# Altium schematic symbol library WS-ROSV.SchLib: 24 symbols
Pins are listed as number, name and electrical type; pins without a type are passive.

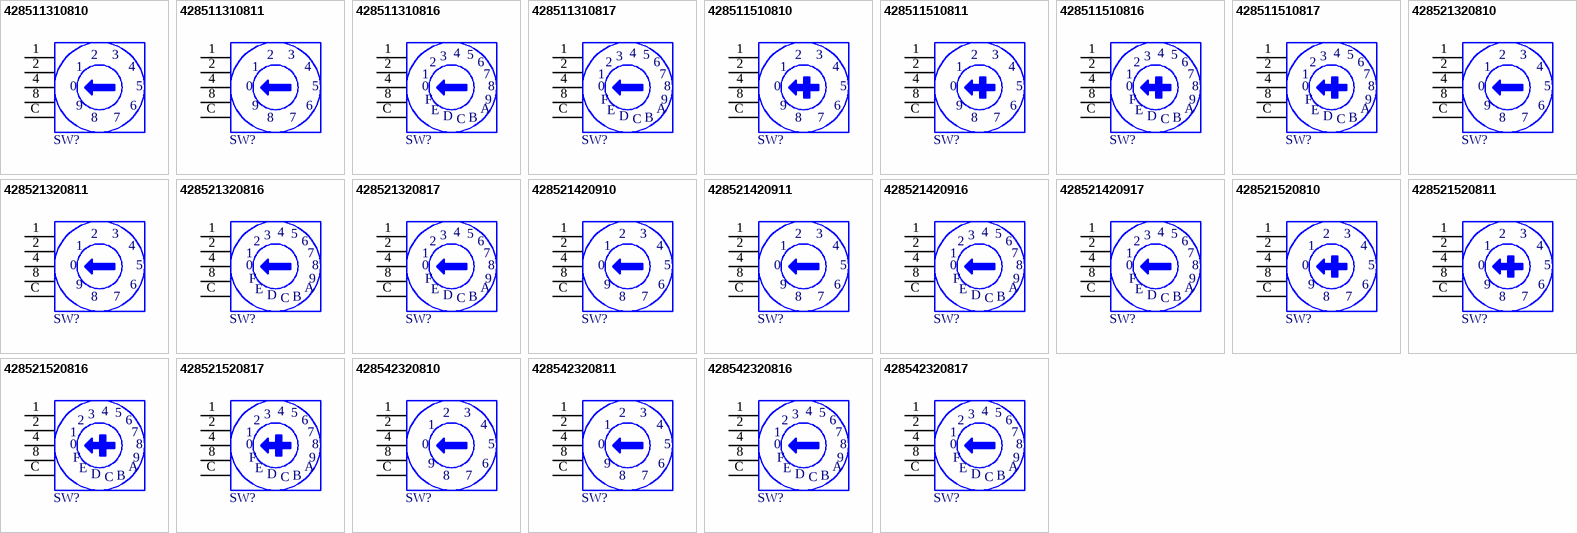
[diagram p0: symbols 428511310810 to 428542320817]

## 428511310810
designator SW?  (value not drawn)
WS-ROSV SMT IP67 Rotary Switch 4x1 Terminal with Arrow Type Actuator, 10 x 10mm, Arrow Type, 10p; Manufacturer: Wurth Elektronik; Actuator Color: Light Grey; Code: Real Code; Cover Material: LCP; Number of Positions: 10; Rated Current: 200mA; Rated Voltage: 42VDC; Washable: Yes; Manufacturer Part Number: 428511310810; Category: Rotary Switches; Match Code: WS-ROSV; ComponentLink1Description: Website Link; ComponentLink1URL: https://www.we-online.com/redexpert/article/428511310810?ad; ComponentLink2Description: Datasheet Link; ComponentLink2URL: https://www.we-online.com/redexpert/spec/428511310810?ad; Mount: Surface Mount; Operating Temperature Max: 85°C; Operating Temperature Min: -40°C; Packaging: Tape and Reel; Length: 10mm; Width: 10mm; Height: 6.8mm; Actuator Type: Arrow Type; Ingress Protection Code: IP67; Terminal Plating: Gold
footprint 42851131081x_10p
pins: 1, 2, 4, 8, C
text: 3; 0; 5; 9; 6; 7

## 428511310811
designator SW?  (value not drawn)
WS-ROSV SMT IP67 Rotary Switch 4x1 Terminal with Arrow Type Actuator, 10 x 10mm, Arrow Type, 10p; Manufacturer: Wurth Elektronik; Actuator Color: Blue; Code: Complement Code; Cover Material: LCP; Number of Positions: 10; Rated Current: 200mA; Rated Voltage: 42VDC; Washable: Yes; Manufacturer Part Number: 428511310811; Category: Rotary Switches; Match Code: WS-ROSV; ComponentLink1Description: Website Link; ComponentLink1URL: https://www.we-online.com/redexpert/article/428511310811?ad; ComponentLink2Description: Datasheet Link; ComponentLink2URL: https://www.we-online.com/redexpert/spec/428511310811?ad; Mount: Surface Mount; Operating Temperature Max: 85°C; Operating Temperature Min: -40°C; Packaging: Tape and Reel; Length: 10mm; Width: 10mm; Height: 6.8mm; Actuator Type: Arrow Type; Ingress Protection Code: IP67; Terminal Plating: Gold
footprint 42851131081x_10p
pins: 1, 2, 4, 8, C
text: 3; 0; 5; 9; 6; 7

## 428511310816
designator SW?  (value not drawn)
WS-ROSV SMT IP67 Rotary Switch 4x1 Terminal with Arrow Type Actuator, 10 x 10mm, Arrow Type, 16p; Manufacturer: Wurth Elektronik; Actuator Color: Light Grey; Code: Real Code; Cover Material: LCP; Number of Positions: 16; Rated Current: 200mA; Rated Voltage: 42VDC; Washable: Yes; Manufacturer Part Number: 428511310816; Category: Rotary Switches; Match Code: WS-ROSV; ComponentLink1Description: Website Link; ComponentLink1URL: https://www.we-online.com/redexpert/article/428511310816?ad; ComponentLink2Description: Datasheet Link; ComponentLink2URL: https://www.we-online.com/redexpert/spec/428511310816?ad; Mount: Surface Mount; Operating Temperature Max: 85°C; Operating Temperature Min: -40°C; Packaging: Tape and Reel; Length: 10mm; Width: 10mm; Height: 6.8mm; Actuator Type: Arrow Type; Ingress Protection Code: IP67; Terminal Plating: Gold
footprint 42851131081x_16p
pins: 1, 2, 4, 8, C
text: 3; 5; 6; 7; 0; F; 9; E; A; D; B

## 428511310817
designator SW?  (value not drawn)
WS-ROSV SMT IP67 Rotary Switch 4x1 Terminal with Arrow Type Actuator, 10 x 10mm, Arrow Type, 16p; Manufacturer: Wurth Elektronik; Actuator Color: Blue; Code: Complement Code; Cover Material: LCP; Number of Positions: 16; Rated Current: 200mA; Rated Voltage: 42VDC; Washable: Yes; Manufacturer Part Number: 428511310817; Category: Rotary Switches; Match Code: WS-ROSV; ComponentLink1Description: Website Link; ComponentLink1URL: https://www.we-online.com/redexpert/article/428511310817?ad; ComponentLink2Description: Datasheet Link; ComponentLink2URL: https://www.we-online.com/redexpert/spec/428511310817?ad; Mount: Surface Mount; Operating Temperature Max: 85°C; Operating Temperature Min: -40°C; Packaging: Tape and Reel; Length: 10mm; Width: 10mm; Height: 6.8mm; Actuator Type: Arrow Type; Ingress Protection Code: IP67; Terminal Plating: Gold
footprint 42851131081x_16p
pins: 1, 2, 4, 8, C
text: 3; 5; 6; 7; 0; F; 9; E; A; D; B

## 428511510810
designator SW?  (value not drawn)
WS-ROSV SMT IP67 Rotary Switch 4x1 Terminal with Cross Type Actuator, 10 x 10mm, Cross Type, 10p; Manufacturer: Wurth Elektronik; Actuator Color: Light Grey; Code: Real Code; Cover Material: LCP; Number of Positions: 10; Rated Current: 200mA; Rated Voltage: 42VDC; Washable: Yes; Manufacturer Part Number: 428511510810; Category: Rotary Switches; Match Code: WS-ROSV; ComponentLink1Description: Website Link; ComponentLink1URL: https://www.we-online.com/redexpert/article/428511510810?ad; ComponentLink2Description: Datasheet Link; ComponentLink2URL: https://www.we-online.com/redexpert/spec/428511510810?ad; Mount: Surface Mount; Operating Temperature Max: 85°C; Operating Temperature Min: -40°C; Packaging: Tape and Reel; Length: 10mm; Width: 10mm; Height: 6.8mm; Actuator Type: Cross Type; Ingress Protection Code: IP67; Terminal Plating: Gold
footprint 42851151081x_10p
pins: 1, 2, 4, 8, C
text: 3; 0; 5; 9; 6; 7

## 428511510811
designator SW?  (value not drawn)
WS-ROSV SMT IP67 Rotary Switch 4x1 Terminal with Cross Type Actuator, 10 x 10mm, Cross Type, 10p; Manufacturer: Wurth Elektronik; Actuator Color: Blue; Code: Complement Code; Cover Material: LCP; Number of Positions: 10; Rated Current: 200mA; Rated Voltage: 42VDC; Washable: Yes; Manufacturer Part Number: 428511510811; Category: Rotary Switches; Match Code: WS-ROSV; ComponentLink1Description: Website Link; ComponentLink1URL: https://www.we-online.com/redexpert/article/428511510811?ad; ComponentLink2Description: Datasheet Link; ComponentLink2URL: https://www.we-online.com/redexpert/spec/428511510811?ad; Mount: Surface Mount; Operating Temperature Max: 85°C; Operating Temperature Min: -40°C; Packaging: Tape and Reel; Length: 10mm; Width: 10mm; Height: 6.8mm; Actuator Type: Cross Type; Ingress Protection Code: IP67; Terminal Plating: Gold
footprint 42851151081x_10p
pins: 1, 2, 4, 8, C
text: 3; 0; 5; 9; 6; 7

## 428511510816
designator SW?  (value not drawn)
WS-ROSV SMT IP67 Rotary Switch 4x1 Terminal with Cross Type Actuator, 10 x 10mm, Cross Type, 16p; Manufacturer: Wurth Elektronik; Actuator Color: Light Grey; Code: Real Code; Cover Material: LCP; Number of Positions: 16; Rated Current: 200mA; Rated Voltage: 42VDC; Washable: Yes; Manufacturer Part Number: 428511510816; Category: Rotary Switches; Match Code: WS-ROSV; ComponentLink1Description: Website Link; ComponentLink1URL: https://www.we-online.com/redexpert/article/428511510816?ad; ComponentLink2Description: Datasheet Link; ComponentLink2URL: https://www.we-online.com/redexpert/spec/428511510816?ad; Mount: Surface Mount; Operating Temperature Max: 85°C; Operating Temperature Min: -40°C; Packaging: Tape and Reel; Length: 10mm; Width: 10mm; Height: 6.8mm; Actuator Type: Cross Type; Ingress Protection Code: IP67; Terminal Plating: Gold
footprint 42851151081x_16p
pins: 1, 2, 4, 8, C
text: 3; 5; 6; 7; 0; F; 9; E; A; D; B

## 428511510817
designator SW?  (value not drawn)
WS-ROSV SMT IP67 Rotary Switch 4x1 Terminal with Cross Type Actuator, 10 x 10mm, Cross Type, 16p; Manufacturer: Wurth Elektronik; Actuator Color: Blue; Code: Complement Code; Cover Material: LCP; Number of Positions: 16; Rated Current: 200mA; Rated Voltage: 42VDC; Washable: Yes; Manufacturer Part Number: 428511510817; Category: Rotary Switches; Match Code: WS-ROSV; ComponentLink1Description: Website Link; ComponentLink1URL: https://www.we-online.com/redexpert/article/428511510817?ad; ComponentLink2Description: Datasheet Link; ComponentLink2URL: https://www.we-online.com/redexpert/spec/428511510817?ad; Mount: Surface Mount; Operating Temperature Max: 85°C; Operating Temperature Min: -40°C; Packaging: Tape and Reel; Length: 10mm; Width: 10mm; Height: 6.8mm; Actuator Type: Cross Type; Ingress Protection Code: IP67; Terminal Plating: Gold
footprint 42851151081x_16p
pins: 1, 2, 4, 8, C
text: 3; 5; 6; 7; 0; F; 9; E; A; D; B

## 428521320810
designator SW?  (value not drawn)
WS-ROSV SMT Rotary Switch with Arrow Type Actuator, 10 x 10mm, Arrow Type, 10p; Manufacturer: Wurth Elektronik; Cover Material: LCP; Number of Positions: 10; Rated Current: 150mA; Rated Voltage: 24VDC; Washable: Yes; ComponentLink1Description: Website Link; ComponentLink1URL: https://www.we-online.com/redexpert/article/428521320810?ad; ComponentLink2Description: Datasheet Link; ComponentLink2URL: https://www.we-online.com/redexpert/spec/428521320810?ad; Manufacturer Part Number: 428521320810; Category: Rotary Switches; Match Code: WS-ROSV; Mount: Surface Mount; Operating Temperature Max: 85°C; Operating Temperature Min: -40°C; Packaging: Tape and Reel; Length: 10mm; Width: 10mm; Height: 6.8mm; Actuator Type: Arrow Type; Terminal Plating: Gold
footprint 42852132081x_10p
pins: 1, 2, 4, 8, C
text: 3; 0; 5; 9; 6; 7

## 428521320811
designator SW?  (value not drawn)
WS-ROSV SMT Rotary Switch with Arrow Type Actuator, 10 x 10mm, Arrow Type, 10p; Manufacturer: Wurth Elektronik; Cover Material: LCP; Number of Positions: 10; Rated Current: 150mA; Rated Voltage: 24VDC; Washable: Yes; ComponentLink1Description: Website Link; ComponentLink1URL: https://www.we-online.com/redexpert/article/428521320811?ad; ComponentLink2Description: Datasheet Link; ComponentLink2URL: https://www.we-online.com/redexpert/spec/428521320811?ad; Manufacturer Part Number: 428521320811; Category: Rotary Switches; Match Code: WS-ROSV; Mount: Surface Mount; Operating Temperature Max: 85°C; Operating Temperature Min: -40°C; Packaging: Tape and Reel; Length: 10mm; Width: 10mm; Height: 6.8mm; Actuator Type: Arrow Type; Terminal Plating: Gold
footprint 42852132081x_10p
pins: 1, 2, 4, 8, C
text: 3; 0; 5; 9; 6; 7

## 428521320816
designator SW?  (value not drawn)
WS-ROSV SMT Rotary Switch with Arrow Type Actuator, 10 x 10mm, Arrow Type, 16p; Manufacturer: Wurth Elektronik; Cover Material: LCP; Number of Positions: 16; Rated Current: 150mA; Rated Voltage: 24VDC; Washable: Yes; ComponentLink1Description: Website Link; ComponentLink1URL: https://www.we-online.com/redexpert/article/428521320816?ad; ComponentLink2Description: Datasheet Link; ComponentLink2URL: https://www.we-online.com/redexpert/spec/428521320816?ad; Manufacturer Part Number: 428521320816; Category: Rotary Switches; Match Code: WS-ROSV; Mount: Surface Mount; Operating Temperature Max: 85°C; Operating Temperature Min: -40°C; Packaging: Tape and Reel; Length: 10mm; Width: 10mm; Height: 6.8mm; Actuator Type: Arrow Type; Terminal Plating: Gold
footprint 42852132081x_16p
pins: 1, 2, 4, 8, C
text: 3; 5; 6; 7; 0; F; 9; E; A; D; B

## 428521320817
designator SW?  (value not drawn)
WS-ROSV SMT Rotary Switch with Arrow Type Actuator, 10 x 10mm, Arrow Type, 16p; Manufacturer: Wurth Elektronik; Cover Material: LCP; Number of Positions: 16; Rated Current: 150mA; Rated Voltage: 24VDC; Washable: Yes; ComponentLink1Description: Website Link; ComponentLink1URL: https://www.we-online.com/redexpert/article/428521320817?ad; ComponentLink2Description: Datasheet Link; ComponentLink2URL: https://www.we-online.com/redexpert/spec/428521320817?ad; Manufacturer Part Number: 428521320817; Category: Rotary Switches; Match Code: WS-ROSV; Mount: Surface Mount; Operating Temperature Max: 85°C; Operating Temperature Min: -40°C; Packaging: Tape and Reel; Length: 10mm; Width: 10mm; Height: 6.8mm; Actuator Type: Arrow Type; Terminal Plating: Gold
footprint 42852132081x_16p
pins: 1, 2, 4, 8, C
text: 3; 5; 6; 7; 0; F; 9; E; A; D; B

## 428521420910
designator SW?  (value not drawn)
WS-ROSV SMT Rotary Switch with Shaft Type Actuator, 10 x 10mm, Shaft Type, 10p; Manufacturer: Wurth Elektronik; Cover Material: LCP; Number of Positions: 10; Rated Current: 150mA; Rated Voltage: 24VDC; Washable: Yes; ComponentLink1Description: Website Link; ComponentLink1URL: https://www.we-online.com/redexpert/article/428521420910?ad; ComponentLink2Description: Datasheet Link; ComponentLink2URL: https://www.we-online.com/redexpert/spec/428521420910?ad; Manufacturer Part Number: 428521420910; Category: Rotary Switches; Match Code: WS-ROSV; Mount: Surface Mount; Operating Temperature Max: 85°C; Operating Temperature Min: -40°C; Packaging: Tube; Length: 10mm; Width: 10mm; Height: 14.1mm; Actuator Type: Shaft Type; Terminal Plating: Gold
footprint 42852142091x_10p
pins: 1, 2, 4, 8, C
text: 3; 0; 5; 9; 6; 7

## 428521420911
designator SW?  (value not drawn)
WS-ROSV SMT Rotary Switch with Shaft Type Actuator, 10 x 10mm, Shaft Type, 10p; Manufacturer: Wurth Elektronik; Cover Material: LCP; Number of Positions: 10; Rated Current: 150mA; Rated Voltage: 24VDC; Washable: Yes; ComponentLink1Description: Website Link; ComponentLink1URL: https://www.we-online.com/redexpert/article/428521420911?ad; ComponentLink2Description: Datasheet Link; ComponentLink2URL: https://www.we-online.com/redexpert/spec/428521420911?ad; Manufacturer Part Number: 428521420911; Category: Rotary Switches; Match Code: WS-ROSV; Mount: Surface Mount; Operating Temperature Max: 85°C; Operating Temperature Min: -40°C; Packaging: Tube; Length: 10mm; Width: 10mm; Height: 14.1mm; Actuator Type: Shaft Type; Terminal Plating: Gold
footprint 42852142091x_10p
pins: 1, 2, 4, 8, C
text: 3; 0; 5; 9; 6; 7

## 428521420916
designator SW?  (value not drawn)
WS-ROSV SMT Rotary Switch with Shaft Type Actuator, 10 x 10mm, Shaft Type, 16p; Manufacturer: Wurth Elektronik; Cover Material: LCP; Number of Positions: 16; Rated Current: 150mA; Rated Voltage: 24VDC; Washable: Yes; ComponentLink1Description: Website Link; ComponentLink1URL: https://www.we-online.com/redexpert/article/428521420916?ad; ComponentLink2Description: Datasheet Link; ComponentLink2URL: https://www.we-online.com/redexpert/spec/428521420916?ad; Manufacturer Part Number: 428521420916; Category: Rotary Switches; Match Code: WS-ROSV; Mount: Surface Mount; Operating Temperature Max: 85°C; Operating Temperature Min: -40°C; Packaging: Tube; Length: 10mm; Width: 10mm; Height: 14.1mm; Actuator Type: Shaft Type; Terminal Plating: Gold
footprint 42852142091x_16p
pins: 1, 2, 4, 8, C
text: 3; 5; 6; 7; 0; F; 9; E; A; D; B

## 428521420917
designator SW?  (value not drawn)
WS-ROSV SMT Rotary Switch with Shaft Type Actuator, 10 x 10mm, Shaft Type, 16p; Manufacturer: Wurth Elektronik; Cover Material: LCP; Number of Positions: 16; Rated Current: 150mA; Rated Voltage: 24VDC; Washable: Yes; ComponentLink1Description: Website Link; ComponentLink1URL: https://www.we-online.com/redexpert/article/428521420917?ad; ComponentLink2Description: Datasheet Link; ComponentLink2URL: https://www.we-online.com/redexpert/spec/428521420917?ad; Manufacturer Part Number: 428521420917; Category: Rotary Switches; Match Code: WS-ROSV; Mount: Surface Mount; Operating Temperature Max: 85°C; Operating Temperature Min: -40°C; Packaging: Tube; Length: 10mm; Width: 10mm; Height: 14.1mm; Actuator Type: Shaft Type; Terminal Plating: Gold
footprint 42852142091x_16p
pins: 1, 2, 4, 8, C
text: 3; 5; 6; 7; 0; F; 9; E; A; D; B

## 428521520810
designator SW?  (value not drawn)
WS-ROSV SMT Rotary Switch with Cross Type Actuator, 10 x 10mm, Cross Type, 10p; Manufacturer: Wurth Elektronik; Cover Material: LCP; Number of Positions: 10; Rated Current: 150mA; Rated Voltage: 24VDC; Washable: Yes; ComponentLink1Description: Website Link; ComponentLink1URL: https://www.we-online.com/redexpert/article/428521520810?ad; ComponentLink2Description: Datasheet Link; ComponentLink2URL: https://www.we-online.com/redexpert/spec/428521520810?ad; Manufacturer Part Number: 428521520810; Category: Rotary Switches; Match Code: WS-ROSV; Mount: Surface Mount; Operating Temperature Max: 85°C; Operating Temperature Min: -40°C; Packaging: Tape and Reel; Length: 10mm; Width: 10mm; Height: 6.8mm; Actuator Type: Cross Type; Terminal Plating: Gold
footprint 42852152081x_10p
pins: 1, 2, 4, 8, C
text: 3; 0; 5; 9; 6; 7

## 428521520811
designator SW?  (value not drawn)
WS-ROSV SMT Rotary Switch with Cross Type Actuator, 10 x 10mm, Cross Type, 10p; Manufacturer: Wurth Elektronik; Cover Material: LCP; Number of Positions: 10; Rated Current: 150mA; Rated Voltage: 24VDC; Washable: Yes; ComponentLink1Description: Website Link; ComponentLink1URL: https://www.we-online.com/redexpert/article/428521520811?ad; ComponentLink2Description: Datasheet Link; ComponentLink2URL: https://www.we-online.com/redexpert/spec/428521520811?ad; Manufacturer Part Number: 428521520811; Category: Rotary Switches; Match Code: WS-ROSV; Mount: Surface Mount; Operating Temperature Max: 85°C; Operating Temperature Min: -40°C; Packaging: Tape and Reel; Length: 10mm; Width: 10mm; Height: 6.8mm; Actuator Type: Cross Type; Terminal Plating: Gold
footprint 42852152081x_10p
pins: 1, 2, 4, 8, C
text: 3; 0; 5; 9; 6; 7

## 428521520816
designator SW?  (value not drawn)
WS-ROSV SMT Rotary Switch with Cross Type Actuator, 10 x 10mm, Cross Type, 16p; Manufacturer: Wurth Elektronik; Cover Material: LCP; Number of Positions: 16; Rated Current: 150mA; Rated Voltage: 24VDC; Washable: Yes; ComponentLink1Description: Website Link; ComponentLink1URL: https://www.we-online.com/redexpert/article/428521520816?ad; ComponentLink2Description: Datasheet Link; ComponentLink2URL: https://www.we-online.com/redexpert/spec/428521520816?ad; Manufacturer Part Number: 428521520816; Category: Rotary Switches; Match Code: WS-ROSV; Mount: Surface Mount; Operating Temperature Max: 85°C; Operating Temperature Min: -40°C; Packaging: Tape and Reel; Length: 10mm; Width: 10mm; Height: 6.8mm; Actuator Type: Cross Type; Terminal Plating: Gold
footprint 42852152081x_16p
pins: 1, 2, 4, 8, C
text: 3; 5; 6; 7; 0; F; 9; E; A; D; B

## 428521520817
designator SW?  (value not drawn)
WS-ROSV SMT Rotary Switch with Cross Type Actuator, 10 x 10mm, Cross Type, 16p; Manufacturer: Wurth Elektronik; Cover Material: LCP; Number of Positions: 16; Rated Current: 150mA; Rated Voltage: 24VDC; Washable: Yes; ComponentLink1Description: Website Link; ComponentLink1URL: https://www.we-online.com/redexpert/article/428521520817?ad; ComponentLink2Description: Datasheet Link; ComponentLink2URL: https://www.we-online.com/redexpert/spec/428521520817?ad; Manufacturer Part Number: 428521520817; Category: Rotary Switches; Match Code: WS-ROSV; Mount: Surface Mount; Operating Temperature Max: 85°C; Operating Temperature Min: -40°C; Packaging: Tape and Reel; Length: 10mm; Width: 10mm; Height: 6.8mm; Actuator Type: Cross Type; Terminal Plating: Gold
footprint 42852152081x_16p
pins: 1, 2, 4, 8, C
text: 3; 5; 6; 7; 0; F; 9; E; A; D; B

## 428542320810
designator SW?  (value not drawn)
WS-ROSV SMT Rotary Switch with Arrow Type Actuator, 7 x 7mm, Arrow Type, 10p; Manufacturer: Wurth Elektronik; Cover Material: Stainless Steel; Number of Positions: 10; Rated Current: 100mA; Rated Voltage: 42VDC; Washable: Yes; ComponentLink1Description: Website Link; ComponentLink1URL: https://www.we-online.com/redexpert/article/428542320810?ad; ComponentLink2Description: Datasheet Link; ComponentLink2URL: https://www.we-online.com/redexpert/spec/428542320810?ad; Manufacturer Part Number: 428542320810; Category: Rotary Switches; Match Code: WS-ROSV; Mount: Surface Mount; Operating Temperature Max: 125°C; Operating Temperature Min: -60°C; Packaging: Tape and Reel; Length: 7mm; Width: 7mm; Height: 3.85mm; Actuator Type: Arrow Type; Terminal Plating: Gold
footprint 42854232081x_10p
pins: 1, 2, 4, 8, C
text: 3; 0; 5; 9; 6; 7

## 428542320811
designator SW?  (value not drawn)
WS-ROSV SMT Rotary Switch with Arrow Type Actuator, 7 x 7mm, Arrow Type, 10p; Manufacturer: Wurth Elektronik; Cover Material: Stainless Steel; Number of Positions: 10; Rated Current: 100mA; Rated Voltage: 42VDC; Washable: Yes; ComponentLink1Description: Website Link; ComponentLink1URL: https://www.we-online.com/redexpert/article/428542320811?ad; ComponentLink2Description: Datasheet Link; ComponentLink2URL: https://www.we-online.com/redexpert/spec/428542320811?ad; Manufacturer Part Number: 428542320811; Category: Rotary Switches; Match Code: WS-ROSV; Mount: Surface Mount; Operating Temperature Max: 125°C; Operating Temperature Min: -60°C; Packaging: Tape and Reel; Length: 7mm; Width: 7mm; Height: 3.85mm; Actuator Type: Arrow Type; Terminal Plating: Gold
footprint 42854232081x_10p
pins: 1, 2, 4, 8, C
text: 3; 0; 5; 9; 6; 7

## 428542320816
designator SW?  (value not drawn)
WS-ROSV SMT Rotary Switch with Arrow Type Actuator, 7 x 7mm, Arrow Type, 16p; Manufacturer: Wurth Elektronik; Cover Material: Stainless Steel; Number of Positions: 16; Rated Current: 100mA; Rated Voltage: 42VDC; Washable: Yes; ComponentLink1Description: Website Link; ComponentLink1URL: https://www.we-online.com/redexpert/article/428542320816?ad; ComponentLink2Description: Datasheet Link; ComponentLink2URL: https://www.we-online.com/redexpert/spec/428542320816?ad; Manufacturer Part Number: 428542320816; Category: Rotary Switches; Match Code: WS-ROSV; Mount: Surface Mount; Operating Temperature Max: 125°C; Operating Temperature Min: -60°C; Packaging: Tape and Reel; Length: 7mm; Width: 7mm; Height: 3.85mm; Actuator Type: Arrow Type; Terminal Plating: Gold
footprint 42854232081x_16p
pins: 1, 2, 4, 8, C
text: 3; 5; 6; 7; 0; F; 9; E; A; D; B

## 428542320817
designator SW?  (value not drawn)
WS-ROSV SMT Rotary Switch with Arrow Type Actuator, 7 x 7mm, Arrow Type, 16p; Manufacturer: Wurth Elektronik; Cover Material: Stainless Steel; Number of Positions: 16; Rated Current: 100mA; Rated Voltage: 42VDC; Washable: Yes; ComponentLink1Description: Website Link; ComponentLink1URL: https://www.we-online.com/redexpert/article/428542320817?ad; ComponentLink2Description: Datasheet Link; ComponentLink2URL: https://www.we-online.com/redexpert/spec/428542320817?ad; Manufacturer Part Number: 428542320817; Category: Rotary Switches; Match Code: WS-ROSV; Mount: Surface Mount; Operating Temperature Max: 125°C; Operating Temperature Min: -60°C; Packaging: Tape and Reel; Length: 7mm; Width: 7mm; Height: 3.85mm; Actuator Type: Arrow Type; Terminal Plating: Gold
footprint 42854232081x_16p
pins: 1, 2, 4, 8, C
text: 3; 5; 6; 7; 0; F; 9; E; A; D; B